# Altium integrated library _JCULibrary_AS2.IntLib: 26 symbols
Pins are listed as number, name and electrical type; pins without a type are passive.

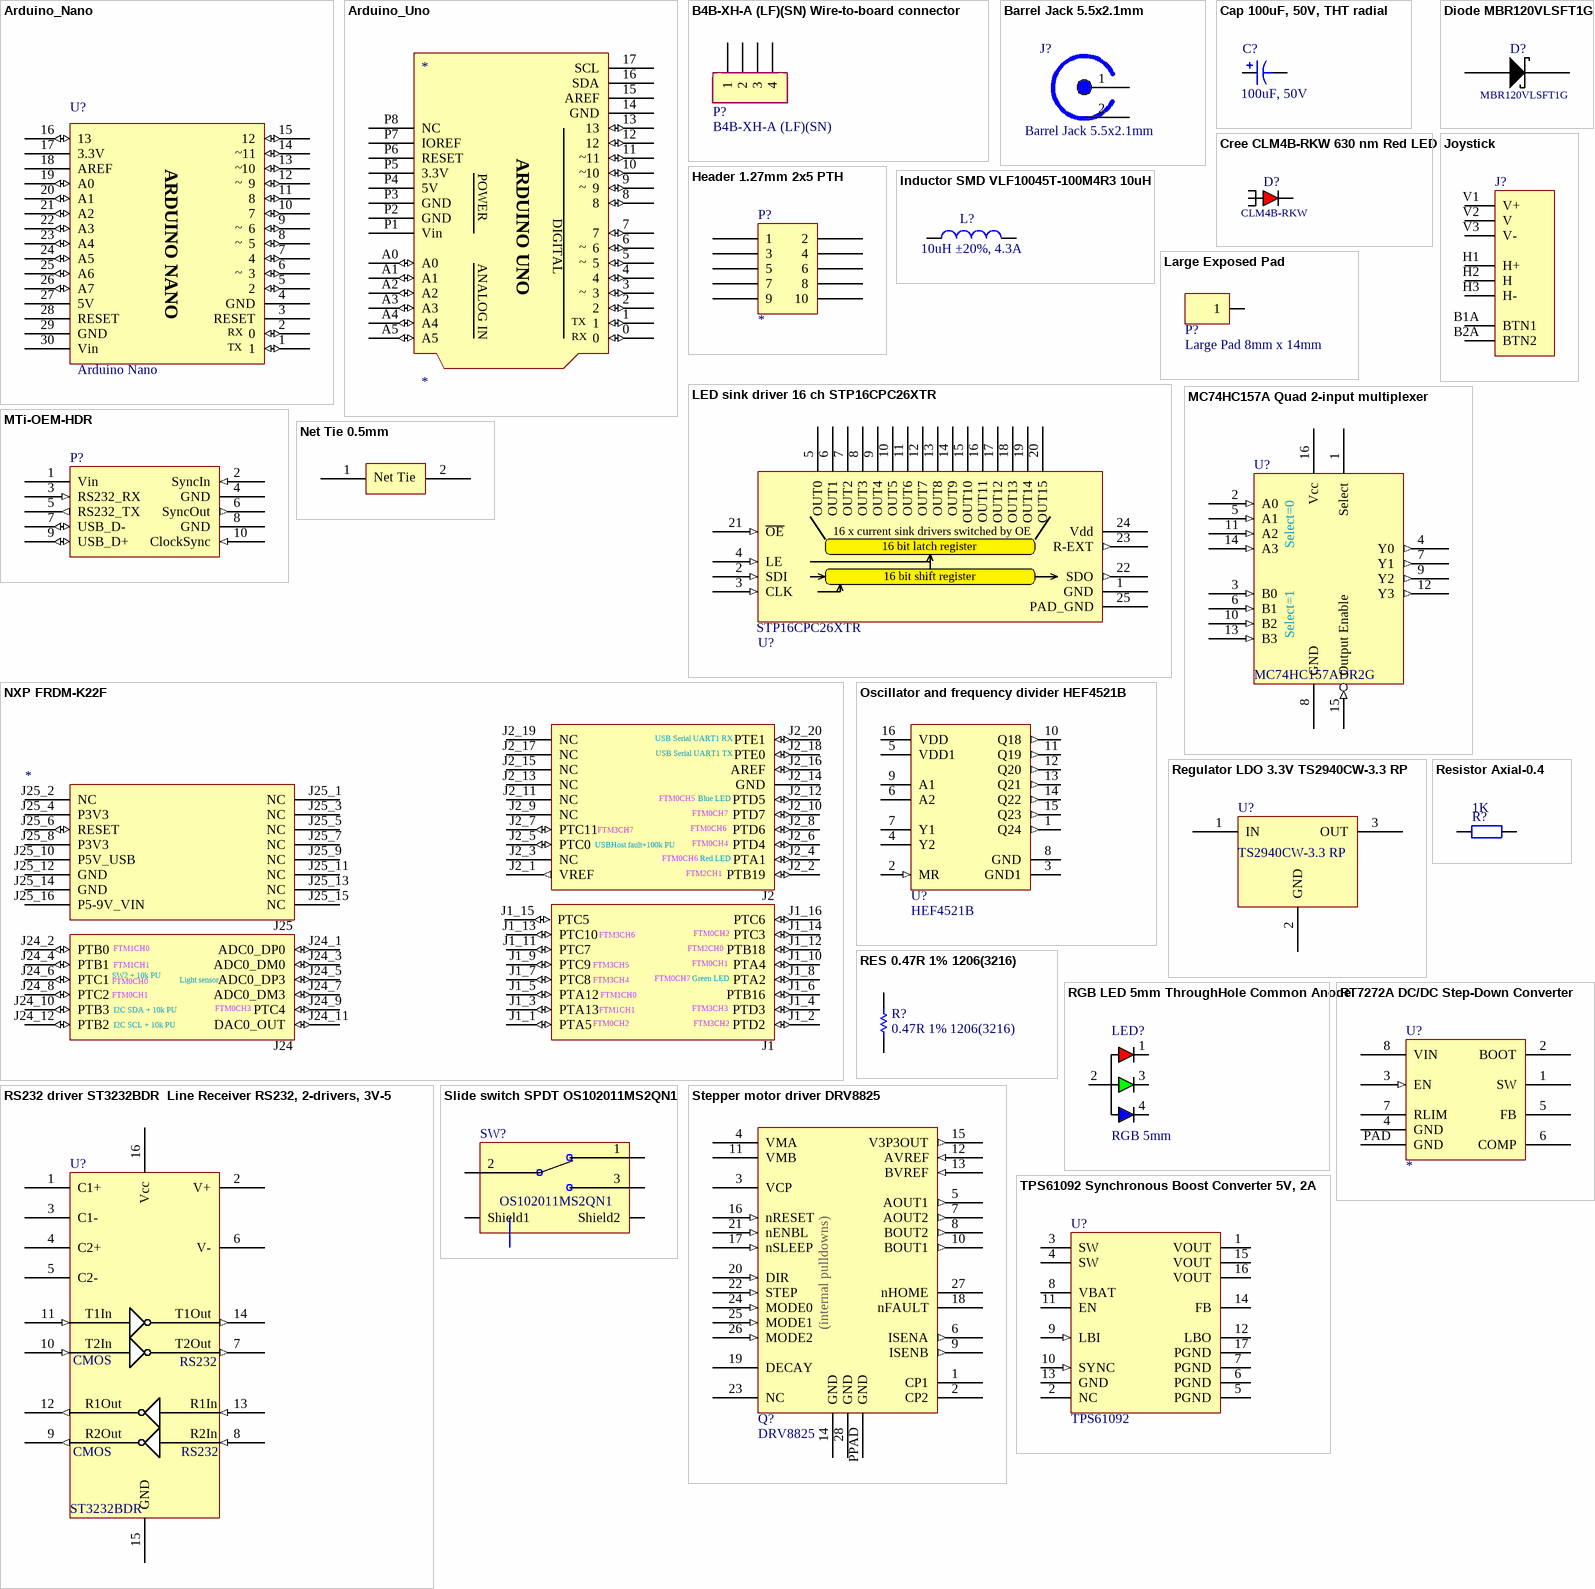
[diagram p0: symbols Arduino_Nano to TPS61092 Synchronous Boost Converter 5V, 2A]

## Arduino_Nano
designator U?, comment Arduino Nano
footprint ARDUINO_NANO (Arduino Nano)
pins: 1 (io), 2 0 (io), 3 RESET, 4 GND (power), 5 2 (io), 6 3 (io), 7 4 (io), 8 5 (io), 9 6 (io), 10 7 (io), 11 8 (io), 12 9 (io), 13 10 (io), 14 11 (io), 15 12 (io), 16 13 (io), 17 3.3V (power), 18 AREF (power), 19 A0 (io), 20 A1 (io), 21 A2 (io), 22 A3 (io), 23 A4 (io), 24 A5 (io), 25 A6 (io), 26 A7 (io), 27 5V (power), 28 RESET, 29 GND (power), 30 Vin
text: ~; ARDUINO NANO; RX; TX

## Arduino_Uno
designator *
Template for building an Arduino shield
footprint ArduinoUnoR3
pins: 0 (io), 1 (io), 2 (io), 3 (io), 4 (io), 5 (io), 6 (io), 7 (io), 8 (io), 9 (io), 10 (io), 11 (io), 12 (io), 13 (io), 14 GND (power), 15 AREF (power), 16 SDA (power), 17 SCL (power), A0 (io), A1 (io), A2 (io), A3 (io), A4 (io), A5 (io), P1 Vin, P2 GND (power), P3 GND (power), P4 5V (power), P5 3.3V (power), P6 RESET, P7 IOREF (power), P8 NC
text: ARDUINO UNO; ~; POWER; DIGITAL; ANALOG IN; TX; RX

## B4B-XH-A (LF)(SN) Wire-to-board connector
designator P?, comment B4B-XH-A (LF)(SN)
Wire-to-board connector, vertical, 2.5mm, 4 contacts
footprint B4B-XH-A (LF)(SN) (B4B-XH-A (LF)(SN) Wire-To-Board Connector, Vertical, 2.5 mm, 4 Contacts)
pins: 1, 2, 3, 4

## Barrel Jack 5.5x2.1mm
designator J?
GCT DCJ200-10-A-K1-K
footprint Barrel Jack 2.1x5.5mm THT (GCT DCJ200-10-A-K1-K)
pins: 1 TIP (power), 2 SLEEVE (power)

## Cap 100uF, 50V, THT radial
designator C?, comment 100uF, 50V
Electrolytic Capacitor, 100 µF, 50 V, ± 20%, Radial Leaded, 8 mm
footprint Capacitor radial 8mm (Radial electrolytic cap, 8mm body, 3.5mm pin separation)
pins: 1, 2

## Cree CLM4B-RKW 630 nm Red LED
designator D?, comment CLM4B-RKW
Cree CLM4B-RKW 630 nm Red LED
footprint Cree PLCC4 SMD LED
pins: 1, 2, 3, 4

## Diode MBR120VLSFT1G
designator D?, comment MBR120VLSFT1G
MBR120VLSFT1G Schottky Rectifier, 20V, 1A
footprint SODFL360X100-2N (SODFL, 2-Leads, Body 1.65x3.60mm, IPC Medium Density)
pins: 1, 2

## Header 1.27mm 2x5 PTH
designator P?
Header 1.27mm pitch, 2x5, PTH through hole
footprint Header 1.27mm 2x5 PTH (Header 1.27mm pitch, 2x5, PTH through hole)
footprint Header 1.27mm 2x5 SMD (Header 1.27mm pitch, 2x5, SMD surface mount)
pins: 1, 2, 3, 4, 5, 6, 7, 8, 9, 10

## Inductor SMD VLF10045T-100M4R3 10uH
designator L?, comment 10uH ±20%, 4.3A
Inductor SMD - 10uH, 4.3A, ±20%; Value: 10uH
footprint Inductor SMD VLF10045 series
pins: 1, 2

## Joystick
designator J?  (value not drawn)
Sparkfun Joystick COM-09032
footprint JOYSTICK (Sparkfun Joystick COM-09032)
pins: B1A BTN1, B2A BTN2, H1 H+, H2 H, H3 H-, V1 V+, V2 V, V3 V-

## Large Exposed Pad
designator P?, comment Large Pad 8mm x 14mm
Large Exposed Pad 8mm x 14mm
footprint Large Exposed Pad (Large Exposed Pad 8mm x 14mm)
pins: 1

## LED sink driver 16 ch STP16CPC26XTR
designator U?, comment STP16CPC26XTR
ST Microelectronics STP16CPC26XTR constant current LED sink driver; Supplier 1: element14 APAC; Supplier Part Number 1: 2460710; Supplier 2: Digikey; Supplier 3: Newark; Supplier Part Number 2: 497-11984-1-ND; Supplier Part Number 3: 38Y7958
footprint STP16CPC26XTR TSSOP-24 (TSOP, 24-Leads, Body 7.80x4.40mm, Pitch 0.65mm, Thermal Pad 5.20x3.40mm, IPC Medium Density)
pins: 1 GND (power), 2 SDI (in), 3 CLK (in), 4 LE (in), 5 OUT0 (power), 6 OUT1 (power), 7 OUT2 (power), 8 OUT3 (power), 9 OUT4 (power), 10 OUT5 (power), 11 OUT6 (power), 12 OUT7 (power), 13 OUT8 (power), 14 OUT9 (power), 15 OUT10 (power), 16 OUT11 (power), 17 OUT12 (power), 18 OUT13 (power), 19 OUT14 (power), 20 OUT15 (power), 21 ~{OE} (in), 22 SDO (out), 23 R-EXT (out), 24 Vdd (power), 25 PAD_GND (power)
text: 16 x current sink drivers switched by OE; 16 bit latch register; 16 bit shift register

## MC74HC157A Quad 2-input multiplexer
designator U?, comment MC74HC157ADR2G
ON SEMICONDUCTOR MC74HC157ADR2G DATA SELECTOR/MULTIPLEXER, 2:1, SOIC-16
footprint SOIC127P600X175-16N (SOIC, 16-Leads, Body 9.90x3.90mm, Pitch 1.27mm, IPC Medium Density)
pins: 1 Select, 2 A0 (in), 3 B0 (in), 4 Y0 (out), 5 A1 (in), 6 B1 (in), 7 Y1 (out), 8 GND (power), 9 Y2 (out), 10 B2 (in), 11 A2 (in), 12 Y3 (out), 13 B3 (in), 14 A3 (in), 15 Output Enable (in), 16 Vcc (power)
text: Select=0; Select=1

## MTi-OEM-HDR
designator P?  (value not drawn)
OEM header for MTi-300 IMU; Supplier 1: Farnell; Supplier Part Number 1: 1798837
footprint Header 1.27mm 2x5 PTH (Header 1.27mm pitch, 2x5, PTH through hole)
footprint Header 1.27mm 2x5 SMD (Header 1.27mm pitch, 2x5, SMD surface mount)
pins: 1 Vin (power) "Vin (4.5-34V)", 2 SyncIn (in), 3 RS232_RX (in), 4 GND (power), 5 RS232_TX (out), 6 SyncOut (out), 7 USB_D- (io), 8 GND (power), 9 USB_D+ (io), 10 ClockSync (in)

## Net Tie 0.5mm
designator NT?  (value not drawn)  (net tie, no BOM)
footprint Net Tie 20mil (Footprint not found)
pins: 1, 2
text: Net Tie

## NXP FRDM-K22F
designator *
footprint FRDM-K22F (NXP FRDM-K22F development board)
pins: J1_1 PTA5 (io), J1_2 PTD2 (io), J1_3 PTA13 (io), J1_4 PTD3 (io), J1_5 PTA12 (io), J1_6 PTB16 (io), J1_7 PTC8 (io), J1_8 PTA2 (io), J1_9 PTC9 (io), J1_10 PTA4 (io), J1_11 PTC7 (io), J1_12 PTB18 (io), J1_13 PTC10 (io), J1_14 PTC3 (io), J1_15 PTC5 (io), J1_16 PTC6 (io), J2_1 VREF (out), J2_2 PTB19 (io), J2_3 NC, J2_4 PTA1 (io), J2_5 PTC0 (io), J2_6 PTD4 (io), J2_7 PTC11 (io), J2_8 PTD6 (io), J2_9 NC, J2_10 PTD7 (io), J2_11 NC, J2_12 PTD5 (io), J2_13 NC, J2_14 GND (power), J2_15 NC, J2_16 AREF (io), J2_17 NC, J2_18 PTE0 (io), J2_19 NC, J2_20 PTE1 (io), J24_1 ADC0_DP0 (io), J24_2 PTB0 (io), J24_3 ADC0_DM0 (io), J24_4 PTB1 (io), J24_5 ADC0_DP3 (io), J24_6 PTC1 (io), J24_7 ADC0_DM3 (io), J24_8 PTC2 (io), J24_9 PTC4 (io), J24_10 PTB3 (io), J24_11 DAC0_OUT (io), J24_12 PTB2 (io), J25_1 NC, J25_2 NC, J25_3 NC, J25_4 P3V3 (power), J25_5 NC, J25_6 RESET (io), J25_7 NC, J25_8 P3V3 (power), J25_9 NC, J25_10 P5V_USB (power), J25_11 NC, J25_12 GND (power), J25_13 NC, J25_14 GND (power), J25_15 NC, J25_16 P5-9V_VIN (power)
text: USB Serial UART1 RX; USB Serial UART1 TX; FTM0CH5; Blue LED; FTM0CH7; FTM3CH7; FTM0CH6; USBHost fault+100k PU; FTM0CH4; Red LED; FTM2CH1; J2; J25; FTM3CH6; FTM0CH2; FTM1CH0; FTM2CH0; FTM1CH1; FTM3CH5; FTM0CH1; SW2 + 10k PU; FTM0CH0; Light sensor; FTM3CH4; Green LED; I2C SDA + 10k PU; FTM0CH3; FTM3CH3; I2C SCL + 10k PU; FTM3CH2; J24; J1

## Oscillator and frequency divider HEF4521B
designator U?, comment HEF4521B
HEF4521B 24-stage frequency divider and oscillator
footprint HEF4521B SOIC127P600X175-16N (SOIC, 16-Leads, Body 9.90x3.90mm, Pitch 1.27mm, IPC Medium Density)
pins: 1 Q24 (out), 2 MR (in), 3 GND1 (power), 4 Y2, 5 VDD1 (power), 6 A2, 7 Y1, 8 GND (power), 9 A1, 10 Q18 (out), 11 Q19 (out), 12 Q20 (out), 13 Q21 (out), 14 Q22 (out), 15 Q23 (out), 16 VDD (power)

## Regulator LDO 3.3V TS2940CW-3.3 RP
designator U?, comment TS2940CW-3.3 RP
Taiwan Semi TS2940CW-3.3 RP; Supplier 1: Farnell; Supplier Part Number 1: 7261403
footprint SOT230P700X180-4N (SOT223, 4-Leads, Body 6.50x7.00mm (avg), Pitch 2.30mm, IPC Medium Density)
pins: 1 IN (power), 2 GND (power), 3 OUT (power)

## RES 0.47R 1% 1206(3216)
designator R?, comment 0.47R 1% 1206(3216)
0.47R 0.5W 1% 1206 (3216 Metric) SMD
footprint RESC1206(3216)_L (Chip Resistor, Body 3.2x1.6mm, IPC High Density)
footprint RESC1206(3216)_M (Chip Resistor, Body 3.2x1.6mm, IPC Low Density)
footprint RESC1206(3216)_N (Chip Resistor, Body 3.2x1.6mm, IPC Medium Density)
pins: 1, 2

## Resistor Axial-0.4
designator R?  value 1K  (hidden comment: Resistor Axial-0.4)
Resistor; Published: 8-Jun-2000; LatestRevisionDate: 17-Jul-2002; LatestRevisionNote: Re-released for DXP Platform.; PackageReference: AXIAL-0.4; Publisher: Altium Limited; PackageDescription: Axial Device, Thru-Hole; 2 Leads; 0.4 in Pin Spacing
footprint AXIAL-0.4 (Axial Device, Thru-Hole; 2 Leads; 0.4 in Pin Spacing)
simulation model RESISTOR (Resistor)
signal-integrity model Res
pins: 1, 2

## RGB LED 5mm ThroughHole Common Anode
designator LED?, comment RGB 5mm
RGB LED 5mm Through Hole Common Anode
footprint RGB LED 5mm
pins: 1, 2, 3, 4

## RS232 driver ST3232BDR  Line Receiver RS232, 2-drivers, 3V-5.5V Supply, SOIC-16
designator U?, comment ST3232BDR
STMICROELECTRONICS ST3232BDR
footprint SOIC127P600X175-16N (SOIC, 16-Leads, Body 9.90x3.90mm, Pitch 1.27mm, IPC Medium Density)
pins: 1 C1+, 2 V+, 3 C1-, 4 C2+, 5 C2-, 6 V-, 7 T2Out (out), 8 R2In (in), 9 R2Out (out), 10 T2In (in), 11 T1In (in), 12 R1Out (out), 13 R1In (in), 14 T1Out (out), 15 GND, 16 Vcc
text: CMOS; RS232

## RT7272A DC/DC Step-Down Converter
designator U?
RIchtek RT7272A 3A, 36V, 500kHz Synchronous Step-Down Converter
footprint RT7272A
pins: 1 SW, 2 BOOT, 3 EN (in), 4 GND (power), 5 FB, 6 COMP, 7 RLIM, 8 VIN (power), PAD GND (power)

## Slide switch SPDT OS102011MS2QN1
designator SW?, comment OS102011MS2QN1
C & K COMPONENTS  OS102011MS2QN1  Slide Switch, OS Series, SPDT, On-On, Through Hole, 100 mA
footprint OS102011MS2QN1 (Slide Switch, OS Series, SPDT, On-On, Through Hole, 100 mA)
pins: 1, 2, 3, 4 Shield1, 5 Shield2

## Stepper motor driver DRV8825
designator Q?, comment DRV8825
TI DRV8825 Stepper Motor Controller IC
footprint DRV8825 HTSSOP
pins: 1 CP1 (power), 2 CP2 (power), 3 VCP (power), 4 VMA (power), 5 AOUT1 (out), 6 ISENA (out), 7 AOUT2 (out), 8 BOUT2 (out), 9 ISENB (out), 10 BOUT1 (out), 11 VMB (power), 12 AVREF (in), 13 BVREF (in), 14 GND (power), 15 V3P3OUT (out), 16 nRESET (in), 17 nSLEEP (in), 18 nFAULT (oc), 19 DECAY, 20 DIR (in), 21 nENBL (in), 22 STEP (in), 23 NC, 24 MODE0 (in), 25 MODE1 (in), 26 MODE2 (in), 27 nHOME (oc), 28 GND (power), PPAD GND (power)
text: (internal pulldowns)

## TPS61092 Synchronous Boost Converter 5V, 2A
designator U?, comment TPS61092
TI TPS61092 Synchronous Boost Converter 5V, 2A
footprint Texas Instruments 16-pin VQFN 4.00x4.00mm (QFN, 16-Leads, Body 4.00x4.00mm, Pitch 0.65mm, Thermal Pad 2.70x2.70mm, IPC Medium Density)
pins: 1 VOUT (power), 2 NC, 3 SW, 4 SW, 5 PGND, 6 PGND, 7 PGND, 8 VBAT (power), 9 LBI (in), 10 SYNC (in), 11 EN, 12 LBO (oc), 13 GND, 14 FB, 15 VOUT (power), 16 VOUT (power), 17 PGND